# Altium integrated library Resistors$.IntLib: 248 symbols (part 3 of 3)
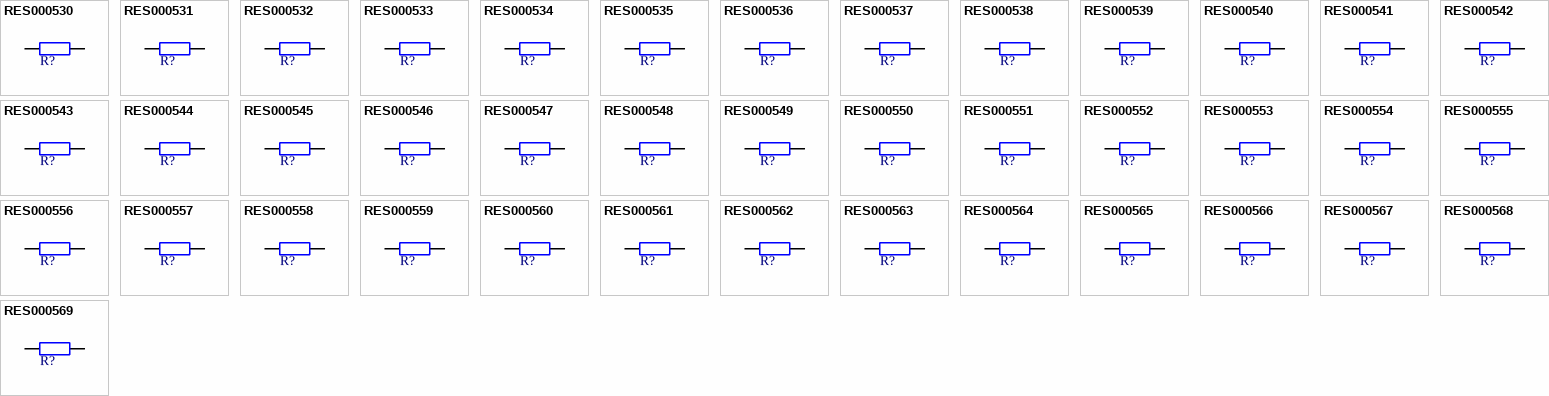
[diagram p8: symbols RES000530 to RES000569]

## RES000565
designator R?, comment 180K  (value not drawn)
RES CER 180K 2012 SM; UoA Stock#: RES000565; Assembly Method: Surface Mount; Voltage/Current: 1/8W; Item Type: Item; Path: ece/ts/Lists/Stock Inventory; Value: 180K; Size/Package: 2012 (0805); Component Type: RES-2012-180K; Category: Resistor; Status: Active
footprint ECE-RESC2012-0805SM
pins: 1, 2

## RES000566
designator R?, comment 220K  (value not drawn)
RES CER 220K 2012 SM; UoA Stock#: RES000566; Assembly Method: Surface Mount; Voltage/Current: 1/8W; Item Type: Item; Path: ece/ts/Lists/Stock Inventory; Value: 220K; Size/Package: 2012 (0805); Component Type: RES-2012-220K; Category: Resistor; Status: Active
footprint ECE-RESC2012-0805SM
pins: 1, 2

## RES000567
designator R?, comment 270K  (value not drawn)
RES CER 270K 2012 SM; UoA Stock#: RES000567; Assembly Method: Surface Mount; Voltage/Current: 1/8W; Item Type: Item; Path: ece/ts/Lists/Stock Inventory; Value: 270K; Size/Package: 2012 (0805); Component Type: RES-2012-270K; Category: Resistor; Status: Active
footprint ECE-RESC2012-0805SM
pins: 1, 2

## RES000568
designator R?, comment 330K  (value not drawn)
RES CER 330K 2012 SM; UoA Stock#: RES000568; Assembly Method: Surface Mount; Voltage/Current: 1/8W; Item Type: Item; Path: ece/ts/Lists/Stock Inventory; Value: 330K; Size/Package: 2012 (0805); Component Type: RES-2012-330K; Category: Resistor; Status: Active
footprint ECE-RESC2012-0805SM
pins: 1, 2

## RES000569
designator R?, comment 390K  (value not drawn)
RES CER 390K 2012 SM; UoA Stock#: RES000569; Assembly Method: Surface Mount; Voltage/Current: 1/8W; Item Type: Item; Path: ece/ts/Lists/Stock Inventory; Value: 390K; Size/Package: 2012 (0805); Component Type: RES-2012-390K; Category: Resistor; Status: Active
footprint ECE-RESC2012-0805SM
pins: 1, 2

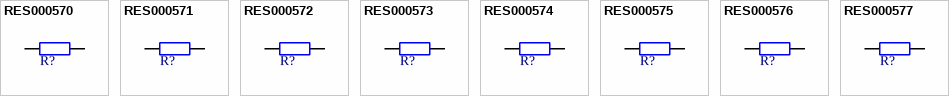
[diagram p6: symbols RES000570 to RES000577]

## RES000570
designator R?, comment 470K  (value not drawn)
RES CER 470K 2012 SM; UoA Stock#: RES000570; Assembly Method: Surface Mount; Voltage/Current: 1/8W; Item Type: Item; Path: ece/ts/Lists/Stock Inventory; Value: 470K; Size/Package: 2012 (0805); Component Type: RES-2012-470K; Category: Resistor; Status: Active
footprint ECE-RESC2012-0805SM
pins: 1, 2

## RES000571
designator R?, comment 560K  (value not drawn)
RES CER 560K 2012 SM; UoA Stock#: RES000571; Assembly Method: Surface Mount; Voltage/Current: 1/8W; Item Type: Item; Path: ece/ts/Lists/Stock Inventory; Value: 560K; Size/Package: 2012 (0805); Component Type: RES-2012-560K; Category: Resistor; Status: Active
footprint ECE-RESC2012-0805SM
pins: 1, 2

## RES000572
designator R?, comment 680K  (value not drawn)
RES CER 680K 2012 SM; UoA Stock#: RES000572; Assembly Method: Surface Mount; Voltage/Current: 1/8W; Item Type: Item; Path: ece/ts/Lists/Stock Inventory; Value: 680K; Size/Package: 2012 (0805); Component Type: RES-2012-680K; Category: Resistor; Status: Active
footprint ECE-RESC2012-0805SM
pins: 1, 2

## RES000573
designator R?, comment 820K  (value not drawn)
RES CER 820K 2012 SM; UoA Stock#: RES000573; Assembly Method: Surface Mount; Voltage/Current: 1/8W; Item Type: Item; Path: ece/ts/Lists/Stock Inventory; Value: 820K; Size/Package: 2012 (0805); Component Type: RES-2012-820K; Category: Resistor; Status: Active
footprint ECE-RESC2012-0805SM
pins: 1, 2

## RES000574
designator R?, comment 1M  (value not drawn)
RES CER 1M 2012 SM; UoA Stock#: RES000574; Assembly Method: Surface Mount; Voltage/Current: 1/8W; Item Type: Item; Path: ece/ts/Lists/Stock Inventory; Value: 1M; Size/Package: 2012 (0805); Component Type: RES-2012-1M; Category: Resistor; Status: Active
footprint ECE-RESC2012-0805SM
pins: 1, 2

## RES000575
designator R?, comment 2M2  (value not drawn)
RES CER 2M2 2012 SM; UoA Stock#: RES000575; Assembly Method: Surface Mount; Voltage/Current: 1/8W; Item Type: Item; Path: ece/ts/Lists/Stock Inventory; Value: 2M2; Size/Package: 2012 (0805); Component Type: RES-2012-2M2; Category: Resistor; Status: Active
footprint ECE-RESC2012-0805SM
pins: 1, 2

## RES000576
designator R?, comment 4M7  (value not drawn)
RES CER 4M7 2012 SM; UoA Stock#: RES000576; Assembly Method: Surface Mount; Voltage/Current: 1/8W; Item Type: Item; Path: ece/ts/Lists/Stock Inventory; Value: 4M7; Size/Package: 2012 (0805); Component Type: RES-2012-4M7; Category: Resistor; Status: Active
footprint ECE-RESC2012-0805SM
pins: 1, 2

## RES000577
designator R?, comment 10M  (value not drawn)
RES CER 10M 2012 SM; UoA Stock#: RES000577; Assembly Method: Surface Mount; Voltage/Current: 1/8W; Item Type: Item; Path: ece/ts/Lists/Stock Inventory; Value: 10M; Size/Package: 2012 (0805); Component Type: RES-2012-10M; Category: Resistor; Status: Active
footprint ECE-RESC2012-0805SM
pins: 1, 2